# Altium schematic symbol library SWARMUS_LIB.SchLib: 181 symbols (part 1 of 4)
Pins are listed as number, name and electrical type; pins without a type are passive.

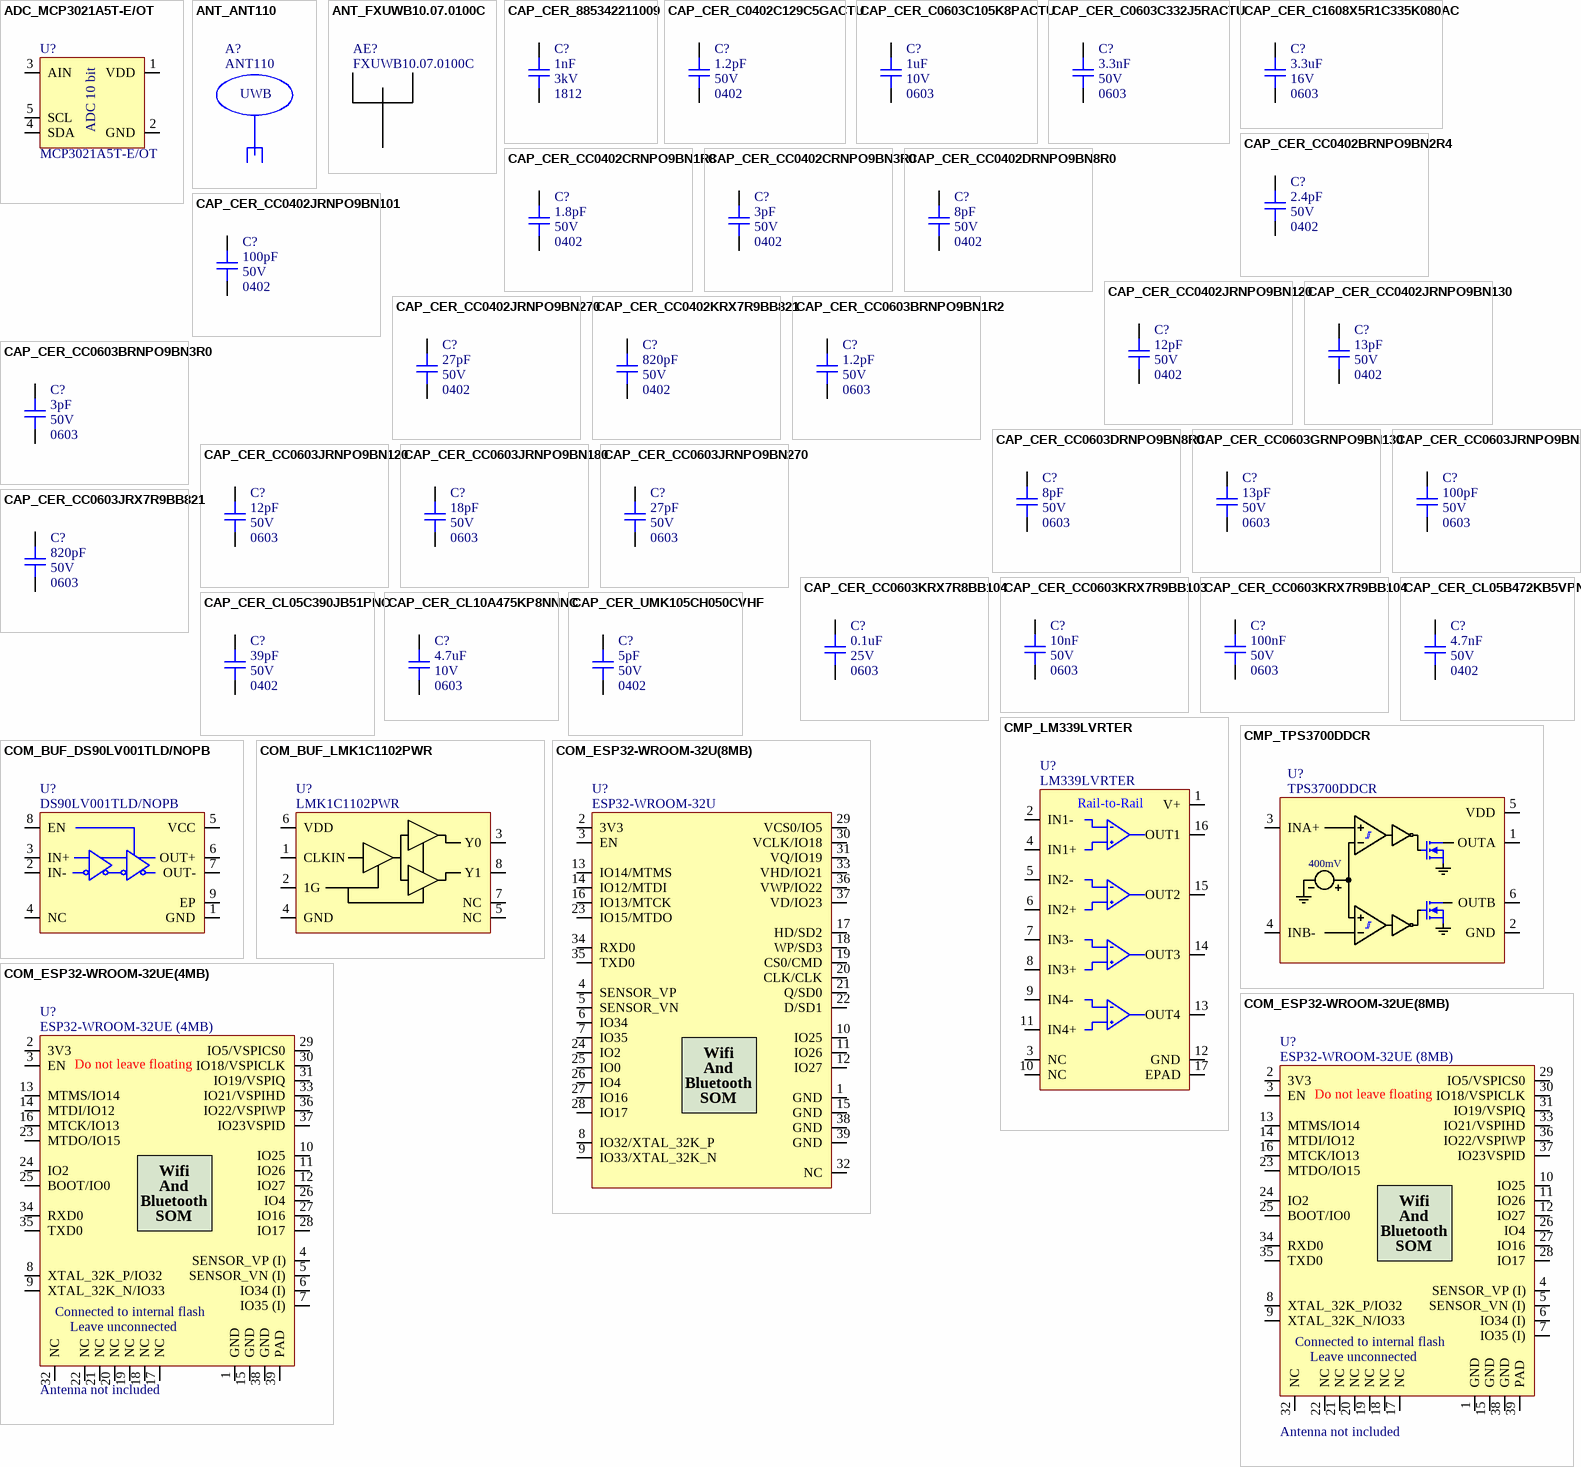
[diagram p0: symbols ADC_MCP3021A5T-E/OT to COM_ESP32-WROOM-32UE(8MB)]

## ADC_MCP3021A5T-E/OT
designator U?, comment MCP3021A5T-E/OT
ADC - IC ADC 10BIT I2C 22.3KSPS - SOT-23-5; Manufacturer #1: Microchip Technology; Note: Slave I2C Adress = 1001101; Value: 10 bit, 1 Channels, 22.3ksps; Voltage rating: 2.7V ~ 5.5V; Polarized: Yes; Magnetic Material: UNKNOWN; GRAMS Lib Spec: 2.8; Current Rating: *; Manufacturer #2: *; Power Max: *; Part Number #1: MCP3021A5T-E/OT; Part Number #2: *; HelpURL: https://ww1.microchip.com/downloads/en/DeviceDoc/20001805C.pdf; Supplier 1: Digi-Key; Supplier Part Number 1: MCP3021A5T-E/OTCT-ND; Assembly Type: SMD; Temperature: -40°C~125°C; Package: SOT-23-5; CreatedBy/Date: Louis-Daniel Gaulin / 24-02-2021; Tolerance: *; VerifiedBy: Hubert Dube - 26/02/2021; Cryo: UNKNOWN
footprint ADC_MCP3021A5T-E/OT
pins: 1 VDD, 2 GND, 3 AIN, 4 SDA, 5 SCL
text: ADC 10 bit

## ANT_ANT110
designator A?, comment ANT110  (mechanical)
ANT - UWB antenna 3.2 to 7GHz; Manufacturer #1: Ciholas; GRAMS Lib Spec: 2.7; Polarized: No; HelpURL: https://cuwb.io/products/ant110.pdf; CreatedBy/Date: Philippe Arsenault/2021-04-11; VerifiedBy: Louis-Daniel Gaulin / 14-04-2021; Assembly Type: SMA; Part Number #1: ANT110; Supplier 1: Ciholas; Supplier Part Number 1: ANT110
text: UWB

## ANT_FXUWB10.07.0100C
designator AE?, comment FXUWB10.07.0100C
External antenna - UWB - UMCC plug; Value: 3.0-10.3GHz; GRAMS Lib Spec: 2.8; HelpURL: http://cdn.taoglas.com/datasheets/FXUWB10.07.0100C.pdf; CreatedBy/Date: Philippe Arsenault; Temperature: -40°C to 85°C; Package: 50 ohm; Assembly Type: UMCC plug; Part Number #1: FXUWB10.07.0100C; Supplier 1: Digi-Key; Supplier Part Number 1: 931-1523-ND

## CAP_CER_885342211009
designator C?, comment value 1nF  Package: 1812  Voltage Rating: 3kV  (hidden comment: 885342211009)
CAP - CER 1000pF ±10% 3000V X7R; Manufacturer #1: Würth Elektronik; GRAMS Lib Spec: 2.8; Magnetic Material: Unknown; Polarized: No; Tolerance: 10%; Current Rating: *; Power Max: *; HelpURL: https://www.we-online.de/katalog/datasheet/885342211009.pdf; CreatedBy/Date: Hubert Dube - 03/02/2021; VerifiedBy: Philippe Asenault - 08-02-2021; Temperature: -55°C ~ 125°C; Manufacturer #2: *; Note: *; Assembly Type: SMD; Part Number #2: *; Part Number #1: 885342211009; Cryo: UNKNOWN; Supplier 1: Digi-Key; Supplier Part Number 1: 732-12109-1-ND
footprint CAP_CER_1812
pins: 1, 2

## CAP_CER_C0402C129C5GACTU
designator C?, comment value 1.2pF  Package: 0402  Voltage Rating: 50V  (hidden comment: C0402C129C5GACTU)
CAP - CER 1.2pF 50V ±0.25pF C0G, NP0 - 0402; Manufacturer #1: KEMET; GRAMS Lib Spec: 2.8; Magnetic Material: Unknown; Polarized: NO; Assembly Type: SMD; CreatedBy/Date: Philippe Arsenault/ 2020-07-24; Current Rating: *; HelpURL: https://content.kemet.com/datasheets/KEM_C1003_C0G_SMD.pdf; Manufacturer #2: *; Note: *; Part Number #1: C0402C129C5GACTU; Part Number #2: *; Power Max: *; Temperature: -55°C ~ 125°C; Tolerance: ±0.25pF; VerifiedBy: Louis-Daniel Gaulin / 2020-07-29; Cryo: UNKNOWN; Supplier 1: Digi-Key; Supplier Part Number 1: 399-1001-1-ND
footprint CAP_CER_0402 (Ceramic Capacitor - 0402)
pins: 1, 2

## CAP_CER_C0603C105K8PACTU
designator C?, comment value 1uF  Package: 0603  Voltage Rating: 10V  (hidden comment: C0603C105K8PACTU)
CAP - CER 1uF 10V 10% X5R - 0603; Manufacturer #1: KEMET; GRAMS Lib Spec: 2.8; Magnetic Material: Unknown; Polarized: NO; Tolerance: 10%; Current Rating: *; Power Max: *; HelpURL: https://content.kemet.com/datasheets/KEM_C1006_X5R_SMD.pdf; CreatedBy/Date: Hubert Dube - 21/07/20; VerifiedBy: Louis-Daniel Gaulin - 21/07/20; Temperature: -55°C ~ 85°C; Manufacturer #2: *; Assembly Type: SMD; Part Number #2: *; Part Number #1: C0603C105K8PACTU; Cryo: UNKNOWN; Supplier 1: Digi-Key; Supplier Part Number 1: 399-3118-1-ND
footprint CAP_CER_0603 (Ceramic Capacitor - 0603)
pins: 1, 2

## CAP_CER_C0603C332J5RACTU
designator C?, comment value 3.3nF  Package: 0603  Voltage Rating: 50V  (hidden comment: C0603C332J5RACTU)
CAP - CER 3.3nF 50V 5% X7R - 0603; Manufacturer #1: KEMET; GRAMS Lib Spec: 2.8; Magnetic Material: Unknown; Polarized: NO; Tolerance: 5%; Current Rating: *; Power Max: *; HelpURL: http://www.farnell.com/datasheets/2745899.pdf?src-supplier=Newark; CreatedBy/Date: Hubert Dube - 21/07/20; VerifiedBy: Louis-Daniel Gaulin - 21/07/20; Temperature: -55°C ~ 125°C; Manufacturer #2: *; Assembly Type: SMD; Part Number #2: *; Part Number #1: C0603C332J5RACTU; Cryo: UNKNOWN; Supplier 1: Digi-Key; Supplier Part Number 1: 399-7901-1-ND
footprint CAP_CER_0603 (Ceramic Capacitor - 0603)
pins: 1, 2

## CAP_CER_C1608X5R1C335K080AC
designator C?, comment value 3.3uF  Package: 0603  Voltage Rating: 16V  (hidden comment: C1608X5R1C335K080AC)
CAP - CER 3.3µF ±10% 16V Ceramic Capacitor X5R 0603 (1608 Metric); Manufacturer #1: TDK Corporation; GRAMS Lib Spec: 2.8; Magnetic Material: Unknown; Polarized: No; Tolerance: 10%; Current Rating: *; Power Max: *; HelpURL: https://product.tdk.com/en/system/files?file=dam/doc/product/capacitor/ceramic/mlcc/catalog/mlcc_commercial_general_en.pdf; CreatedBy/Date: Hubert Dube - 16/03/2021; VerifiedBy: Philippe Arsenault - 2021/03/16; Temperature: -55°C ~ 85°C; Manufacturer #2: *; Note: *; Assembly Type: SMD; Part Number #2: *; Part Number #1: C1608X5R1C335K080AC; Cryo: UNKNOWN; Supplier 1: Digi-Key; Supplier Part Number 1: 445-7476-1-ND
footprint CAP_CER_0603 (Ceramic Capacitor - 0603)
pins: 1, 2

## CAP_CER_CC0402BRNPO9BN2R4
designator C?, comment value 2.4pF  Package: 0402  Voltage Rating: 50V  (hidden comment: CC0402BRNPO9BN2R4)
CAP - CER 2.4PF 50V C0G/NP0 - 0402; Manufacturer #1: Yageo; Tolerance: ±0.1pF; GRAMS Lib Spec: 2.8; Magnetic Material: Unknown; Polarized: NO; Current Rating: *; Power Max: *; HelpURL: https://www.yageo.com/upload/media/product/productsearch/datasheet/mlcc/UPY-GP_NP0_16V-to-50V_18.pdf; CreatedBy/Date: Hubert Dube - 04/10/20; VerifiedBy: Louis-Daniel Gaulin - 09/11/2020; Temperature: -55°C ~ 125°C; Manufacturer #2: *; Assembly Type: SMD; Part Number #2: *; Part Number #1: CC0402BRNPO9BN2R4; Cryo: UNKNOWN; Supplier 1: Digi-Key; Supplier Part Number 1: 311-3703-1-ND
footprint CAP_CER_0402 (Ceramic Capacitor - 0402)
pins: 1, 2

## CAP_CER_CC0402CRNPO9BN1R8
designator C?, comment value 1.8pF  Package: 0402  Voltage Rating: 50V  (hidden comment: CC0402CRNPO9BN1R8)
CAP - CER 1.8PF 50V C0G/NP0 - 0402; Manufacturer #1: Yageo; Tolerance: ±0.25pF; GRAMS Lib Spec: 2.8; Magnetic Material: Unknown; Polarized: NO; Current Rating: *; Power Max: *; HelpURL: https://www.yageo.com/upload/media/product/productsearch/datasheet/mlcc/UPY-GP_NP0_16V-to-50V_18.pdf; CreatedBy/Date: Hubert Dube - 04/10/20; VerifiedBy: Louis-Daniel Gaulin - 09/11/2020; Temperature: -55°C ~ 125°C; Manufacturer #2: *; Assembly Type: SMD; Part Number #2: *; Part Number #1: CC0402CRNPO9BN1R8; Cryo: UNKNOWN; Supplier 1: Digi-Key; Supplier Part Number 1: 311-1004-1-ND
footprint CAP_CER_0402 (Ceramic Capacitor - 0402)
pins: 1, 2

## CAP_CER_CC0402CRNPO9BN3R0
designator C?, comment value 3pF  Package: 0402  Voltage Rating: 50V  (hidden comment: CC0402CRNPO9BN3R0)
CAP - CER 3pF 50V ±0.25pF C0G, NP0 - 0402; Manufacturer #1: Yageo; GRAMS Lib Spec: 2.8; Magnetic Material: Unknown; Polarized: NO; Assembly Type: SMD; CreatedBy/Date: Philippe Arsenault/ 2020-07-24; Current Rating: *; HelpURL: https://www.yageo.com/upload/media/product/productsearch/datasheet/mlcc/UPY-GP_NP0_16V-to-50V_18.pdf; Manufacturer #2: *; Note: *; Part Number #1: CC0402CRNPO9BN3R0; Part Number #2: *; Power Max: *; Temperature: -55°C ~ 125°C; Tolerance: ±0.25pF; VerifiedBy: Louis-Daniel Gaulin / 2020-07-29; Cryo: UNKNOWN; Supplier 1: Digi-Key; Supplier Part Number 1: 311-1007-1-ND
footprint CAP_CER_0402 (Ceramic Capacitor - 0402)
pins: 1, 2

## CAP_CER_CC0402DRNPO9BN8R0
designator C?, comment value 8pF  Package: 0402  Voltage Rating: 50V  (hidden comment: CC0402DRNPO9BN8R0)
CAP - CER 8PF 50V C0G/NP0 - 0402; Manufacturer #1: Yageo; Tolerance: ±0.5pF; GRAMS Lib Spec: 2.8; Magnetic Material: Unknown; Polarized: NO; Current Rating: *; Power Max: *; HelpURL: https://www.yageo.com/upload/media/product/productsearch/datasheet/mlcc/UPY-GP_NP0_16V-to-50V_18.pdf; CreatedBy/Date: Hubert Dube - 04/10/20; VerifiedBy: Louis-Daniel Gaulin - 09/11/2020; Temperature: -55°C ~ 125°C; Manufacturer #2: *; Assembly Type: SMD; Part Number #2: *; Part Number #1: CC0402DRNPO9BN8R0; Cryo: UNKNOWN; Supplier 1: Digi-Key; Supplier Part Number 1: 311-1639-1-ND
footprint CAP_CER_0402 (Ceramic Capacitor - 0402)
pins: 1, 2

## CAP_CER_CC0402JRNPO9BN101
designator C?, comment value 100pF  Package: 0402  Voltage Rating: 50V  (hidden comment: CC0402JRNPO9BN101)
CAP - CER 100pF 50V ±5% C0G,CP0 - 0402; Manufacturer #1: Yageo; GRAMS Lib Spec: 2.8; Magnetic Material: Unknown; Polarized: NO; Assembly Type: SMD; CreatedBy/Date: Philippe Arsenault/ 2020-07-24; Current Rating: *; HelpURL: https://www.yageo.com/upload/media/product/productsearch/datasheet/mlcc/UPY-GPHC_X7R_6.3V-to-50V_18.pdf; Manufacturer #2: *; Note: *; Part Number #1: CC0402JRNPO9BN101; Part Number #2: *; Power Max: *; Temperature: -55°C ~ 125°C; Tolerance: ±5%; VerifiedBy: Louis-Daniel Gaulin / 2020-07-29; Cryo: UNKNOWN; Supplier 1: Digi-Key; Supplier Part Number 1: 311-1024-1-ND
footprint CAP_CER_0402 (Ceramic Capacitor - 0402)
pins: 1, 2

## CAP_CER_CC0402JRNPO9BN120
designator C?, comment value 12pF  Package: 0402  Voltage Rating: 50V  (hidden comment: CC0402JRNPO9BN120)
CAP - CER 12pF 50V ±5% C0G, NP0 - 0402; Manufacturer #1: Yageo; GRAMS Lib Spec: 2.8; Magnetic Material: Unknown; Polarized: NO; Assembly Type: SMD; CreatedBy/Date: Philippe Arsenault/ 2020-07-24; Current Rating: *; HelpURL: https://www.yageo.com/upload/media/product/productsearch/datasheet/mlcc/UPY-GP_NP0_16V-to-50V_18.pdf; Manufacturer #2: *; Note: *; Part Number #1: CC0402JRNPO9BN120; Part Number #2: *; Power Max: *; Temperature: -55°C ~ 125°C; Tolerance: ±5%; VerifiedBy: Louis-Daniel Gaulin / 2020-07-29; Cryo: UNKNOWN; Supplier 1: Digi-Key; Supplier Part Number 1: 311-1016-1-ND
footprint CAP_CER_0402 (Ceramic Capacitor - 0402)
pins: 1, 2

## CAP_CER_CC0402JRNPO9BN130
designator C?, comment value 13pF  Package: 0402  Voltage Rating: 50V  (hidden comment: CC0402JRNPO9BN130)
CAP - CER 13PF 50V C0G/NP0 - 0402; Manufacturer #1: Yageo; Tolerance: ±5%; GRAMS Lib Spec: 2.8; Magnetic Material: Unknown; Polarized: NO; Current Rating: *; Power Max: *; HelpURL: https://www.yageo.com/upload/media/product/productsearch/datasheet/mlcc/UPY-GP_NP0_16V-to-50V_18.pdf; CreatedBy/Date: Hubert Dube - 04/10/20; VerifiedBy: Louis-Daniel Gaulin - 09/11/2020; Temperature: -55°C ~ 125°C; Manufacturer #2: *; Assembly Type: SMD; Part Number #2: *; Part Number #1: CC0402JRNPO9BN130; Cryo: UNKNOWN; Supplier 1: Digi-Key; Supplier Part Number 1: 311-3754-1-ND
footprint CAP_CER_0402 (Ceramic Capacitor - 0402)
pins: 1, 2

## CAP_CER_CC0402JRNPO9BN270
designator C?, comment value 27pF  Package: 0402  Voltage Rating: 50V  (hidden comment: CC0402JRNPO9BN270)
CAP - CER 27pF 50V ±5% C0G, NP0 - 0402; Manufacturer #1: Yageo; GRAMS Lib Spec: 2.8; Magnetic Material: Unknown; Polarized: NO; Assembly Type: SMD; CreatedBy/Date: Philippe Arsenault/ 2020-07-24; Current Rating: *; HelpURL: https://www.yageo.com/upload/media/product/productsearch/datasheet/mlcc/UPY-GP_NP0_16V-to-50V_18.pdf; Manufacturer #2: *; Note: *; Part Number #1: CC0402JRNPO9BN270; Part Number #2: *; Power Max: *; Temperature: -55°C ~ 125°C; Tolerance: ±5%; VerifiedBy: Louis-Daniel Gaulin / 2020-07-29; Cryo: UNKNOWN; Supplier 1: Digi-Key; Supplier Part Number 1: 311-1019-1-ND
footprint CAP_CER_0402 (Ceramic Capacitor - 0402)
pins: 1, 2

## CAP_CER_CC0402KRX7R9BB821
designator C?, comment value 820pF  Package: 0402  Voltage Rating: 50V  (hidden comment: CC0402KRX7R9BB821)
CAP - CER 820pF 50V ±10% X7R - 0402; Manufacturer #1: Yageo; GRAMS Lib Spec: 2.8; Magnetic Material: Unknown; Polarized: NO; Assembly Type: SMD; CreatedBy/Date: Philippe Arsenault/ 2020-07-24; Current Rating: *; HelpURL: https://www.yageo.com/upload/media/product/productsearch/datasheet/mlcc/UPY-GPHC_X7R_6.3V-to-50V_18.pdf; Manufacturer #2: *; Note: *; Part Number #1: CC0402KRX7R9BB821; Part Number #2: *; Power Max: *; Temperature: -55°C ~ 125°C; Tolerance: ±10%; VerifiedBy: Louis-Daniel Gaulin / 2020-07-29; Cryo: UNKNOWN; Supplier 1: Digi-Key; Supplier Part Number 1: 311-1727-1-ND
footprint CAP_CER_0402 (Ceramic Capacitor - 0402)
pins: 1, 2

## CAP_CER_CC0603BRNPO9BN1R2
designator C?, comment value 1.2pF  Package: 0603  Voltage Rating: 50V  (hidden comment: CC0603BRNPO9BN1R2)
CAP - CER 1.2pF 50V ±0.1pF C0G/NP0 - 0603; Manufacturer #1: Yageo; GRAMS Lib Spec: 2.8; Magnetic Material: UNKNOWN; Polarized: NO; Tolerance: ±0.1pF; Current Rating: *; Power Max: *; HelpURL: https://www.yageo.com/upload/media/product/productsearch/datasheet/mlcc/UPY-GP_NP0_16V-to-50V_18.pdf; CreatedBy/Date: Philippe Arsenault/2020-07-21; VerifiedBy: Louis-Daniel Gaulin / 2020-07-23; Temperature: -55°C ~ 125°C; Manufacturer #2: *; Note: *; Assembly Type: SMD; Part Number #2: *; Part Number #1: CC0603BRNPO9BN1R2; Cryo: UNKNOWN; Supplier 1: Digi-Key; Supplier Part Number 1: 311-3825-1-ND
footprint CAP_CER_0603 (Ceramic Capacitor - 0603)
pins: 1, 2

## CAP_CER_CC0603BRNPO9BN3R0
designator C?, comment value 3pF  Package: 0603  Voltage Rating: 50V  (hidden comment: CC0603BRNPO9BN3R0)
CAP - CER 3pF 50V ±0.1pF C0G/NP0 - 0603; Manufacturer #1: Yageo; GRAMS Lib Spec: 2.8; Magnetic Material: UNKNOWN; Polarized: NO; Tolerance: ±0.1pF; Current Rating: *; Power Max: *; HelpURL: https://www.yageo.com/upload/media/product/productsearch/datasheet/mlcc/UPY-GP_NP0_16V-to-50V_18.pdf; CreatedBy/Date: Philippe Arsenault/2020-07-21; VerifiedBy: Louis-Daniel Gaulin / 2020-07-22; Temperature: -55°C ~ 125°C; Manufacturer #2: *; Note: *; Assembly Type: SMD; Part Number #2: *; Part Number #1: CC0603BRNPO9BN3R0; Cryo: UNKNOWN; Supplier 1: Digi-Key; Supplier Part Number 1: 311-3831-1-ND
footprint CAP_CER_0603 (Ceramic Capacitor - 0603)
pins: 1, 2

## CAP_CER_CC0603DRNPO9BN8R0
designator C?, comment value 8pF  Package: 0603  Voltage Rating: 50V  (hidden comment: CC0603DRNPO9BN8R0)
CAP - CER 8pF 50V ±0.5pF C0G/NP0 - 0603; Manufacturer #1: Yageo; Tolerance: ±0.5pF (6.25%); GRAMS Lib Spec: 2.8; Magnetic Material: Unknown; Polarized: NO; Current Rating: *; Power Max: *; HelpURL: https://www.yageo.com/upload/media/product/productsearch/datasheet/mlcc/UPY-GP_NP0_16V-to-50V_18.pdf; CreatedBy/Date: Hubert Dube - 21/07/20; VerifiedBy: Louis-Daniel Gaulin / 2020-07-22; Temperature: -55°C ~ 125°C; Manufacturer #2: *; Assembly Type: SMD; Part Number #2: *; Part Number #1: CC0603DRNPO9BN8R0; Cryo: UNKNOWN; Supplier 1: Digi-Key; Supplier Part Number 1: 311-1057-1-ND
footprint CAP_CER_0603 (Ceramic Capacitor - 0603)
pins: 1, 2

## CAP_CER_CC0603GRNPO9BN130
designator C?, comment value 13pF  Package: 0603  Voltage Rating: 50V  (hidden comment: CC0603GRNPO9BN130)
CAP - CER 13pF 50V 2% C0G/NP0 - 0603; Manufacturer #1: Yageo; GRAMS Lib Spec: 2.8; Magnetic Material: Unknown; Polarized: NO; Tolerance: 2%; Current Rating: *; Power Max: *; HelpURL: https://www.yageo.com/upload/media/product/productsearch/datasheet/mlcc/UPY-GP_NP0_16V-to-50V_18.pdf; CreatedBy/Date: Hubert Dube - 21/07/20; VerifiedBy: Louis-Daniel Gaulin / 2020-07-22; Temperature: -55°C ~ 125°C; Manufacturer #2: *; Assembly Type: SMD; Part Number #2: *; Part Number #1: CC0603GRNPO9BN130; Cryo: UNKNOWN; Supplier 1: Digi-Key; Supplier Part Number 1: 311-3919-1-ND
footprint CAP_CER_0603 (Ceramic Capacitor - 0603)
pins: 1, 2

## CAP_CER_CC0603JRNPO9BN101
designator C?, comment value 100pF  Package: 0603  Voltage Rating: 50V  (hidden comment: CC0603JRNPO9BN101)
CAP - CER 100pF 50V 5% C0G/NP0 - 0603; Manufacturer #1: Yageo; GRAMS Lib Spec: 2.8; Magnetic Material: Unknown; Polarized: NO; Tolerance: 5%; Current Rating: *; Power Max: *; HelpURL: https://www.yageo.com/upload/media/product/productsearch/datasheet/mlcc/UPY-GP_NP0_16V-to-50V_18.pdf; CreatedBy/Date: Hubert Dube - 21/07/20; VerifiedBy: Louis-Daniel Gaulin - 21/07/20; Temperature: -55°C ~ 125°C; Manufacturer #2: *; Assembly Type: SMD; Part Number #2: *; Part Number #1: CC0603JRNPO9BN101; Cryo: UNKNOWN; Supplier 1: Digi-Key; Supplier Part Number 1: 311-1069-1-ND
footprint CAP_CER_0603 (Ceramic Capacitor - 0603)
pins: 1, 2

## CAP_CER_CC0603JRNPO9BN120
designator C?, comment value 12pF  Package: 0603  Voltage Rating: 50V  (hidden comment: CC0603JRNPO9BN120)
CAP - CER 12pF 50V 5% C0G/NP0 - 0603; Manufacturer #1: Yageo; GRAMS Lib Spec: 2.8; Magnetic Material: Unknown; Polarized: No; Tolerance: 5%; Current Rating: *; Power Max: *; HelpURL: https://www.yageo.com/upload/media/product/productsearch/datasheet/mlcc/UPY-GP_NP0_16V-to-50V_18.pdf; CreatedBy/Date: Philippe Arsenault/2020-07-22; VerifiedBy: Louis-Daniel Gaulin / 2020-07-23; Temperature: -55°C ~ 125°C; Manufacturer #2: *; Note: *; Assembly Type: SMD; Part Number #2: *; Part Number #1: CC0603JRNPO9BN120; Cryo: Unknown; Supplier 1: Digi-Key; Supplier Part Number 1: 311-1059-1-ND
footprint CAP_CER_0603 (Ceramic Capacitor - 0603)
pins: 1, 2

## CAP_CER_CC0603JRNPO9BN180
designator C?, comment value 18pF  Package: 0603  Voltage Rating: 50V  (hidden comment: CC0603JRNPO9BN180)
CAP - CER 18pF 50V 5% C0G/NP0 - 0603; Manufacturer #1: Yageo; GRAMS Lib Spec: 2.8; Magnetic Material: Unknown; Polarized: No; Tolerance: 5%; Current Rating: *; Power Max: *; HelpURL: https://www.yageo.com/upload/media/product/productsearch/datasheet/mlcc/UPY-GP_NP0_16V-to-50V_18.pdf; CreatedBy/Date: Philippe Arsenault/2020-07-22; VerifiedBy: Louis-Daniel Gaulin / 2020-07-23; Temperature: -55°C ~ 125°C; Manufacturer #2: *; Note: *; Assembly Type: SMD; Part Number #2: *; Part Number #1: CC0603JRNPO9BN180; Cryo: Unknown; Supplier 1: Digi-Key; Supplier Part Number 1: 311-1061-1-ND
footprint CAP_CER_0603 (Ceramic Capacitor - 0603)
pins: 1, 2

## CAP_CER_CC0603JRNPO9BN270
designator C?, comment value 27pF  Package: 0603  Voltage Rating: 50V  (hidden comment: CC0603JRNPO9BN270)
CAP - CER 27pF 50V 5% C0G/NP0 - 0603; Manufacturer #1: Yageo; GRAMS Lib Spec: 2.8; Magnetic Material: Unknown; Polarized: No; Tolerance: 5%; Current Rating: *; Power Max: *; HelpURL: https://www.yageo.com/upload/media/product/productsearch/datasheet/mlcc/UPY-GP_NP0_16V-to-50V_18.pdf; CreatedBy/Date: Philippe Arsenault/2020-07-22; VerifiedBy: Louis-Daniel Gaulin / 2020-07-23; Temperature: -55°C ~ 125°C; Manufacturer #2: *; Note: *; Assembly Type: SMD; Part Number #2: *; Part Number #1: CC0603JRNPO9BN270; Cryo: Unknown; Supplier 1: Digi-Key; Supplier Part Number 1: 311-1063-1-ND
footprint CAP_CER_0603 (Ceramic Capacitor - 0603)
pins: 1, 2

## CAP_CER_CC0603JRX7R9BB821
designator C?, comment value 820pF  Package: 0603  Voltage Rating: 50V  (hidden comment: CC0603JRX7R9BB821)
CAP - CER 820pF 50V 5% X7R  - 0603; Manufacturer #1: Yageo; GRAMS Lib Spec: 2.8; Magnetic Material: Unknown; Polarized: No; Tolerance: 5%; Current Rating: *; Power Max: *; HelpURL: https://www.yageo.com/upload/media/product/productsearch/datasheet/mlcc/UPY-GPHC_X7R_6.3V-to-50V_18.pdf; CreatedBy/Date: Philippe Arsenault/2020-07-22; VerifiedBy: Louis-Daniel Gaulin / 2020-07-23; Temperature: -55°C ~ 125°C; Manufacturer #2: *; Note: *; Assembly Type: SMD; Part Number #2: *; Part Number #1: CC0603JRX7R9BB821; Cryo: Unknown; Supplier 1: Digi-Key; Supplier Part Number 1: 311-4023-1-ND
footprint CAP_CER_0603 (Ceramic Capacitor - 0603)
pins: 1, 2

## CAP_CER_CC0603KRX7R8BB104
designator C?, comment value 0.1uF  Package: 0603  Voltage Rating: 25V  (hidden comment: CC0603KRX7R8BB104)
CAP - CER 0.1uF 25V 10% X7R - 0603; Manufacturer #1: Yageo; GRAMS Lib Spec: 2.8; Magnetic Material: Unknown; Polarized: NO; Tolerance: 10%; Current Rating: *; Power Max: *; HelpURL: https://www.yageo.com/upload/media/product/productsearch/datasheet/mlcc/UPY-GPHC_X7R_6.3V-to-50V_18.pdf; CreatedBy/Date: Hubert Dube - 21/07/20; VerifiedBy: Louis-Daniel Gaulin - 21/07/20; Temperature: -55°C ~ 125°C; Manufacturer #2: *; Assembly Type: SMD; Part Number #2: *; Part Number #1: CC0603KRX7R8BB104; Cryo: UNKNOWN; Supplier 1: Digi-Key; Supplier Part Number 1: 311-1341-2-ND
footprint CAP_CER_0603 (Ceramic Capacitor - 0603)
pins: 1, 2

## CAP_CER_CC0603KRX7R9BB103
designator C?, comment value 10nF  Package: 0603  Voltage Rating: 50V  (hidden comment: CC0603KRX7R9BB103)
CAP - CER 10nF 50V 10% X7R - 0603; Manufacturer #1: Yageo; GRAMS Lib Spec: 2.8; Magnetic Material: Unknown; Polarized: NO; Tolerance: 10%; Current Rating: *; Power Max: *; HelpURL: https://www.yageo.com/upload/media/product/productsearch/datasheet/mlcc/UPY-GPHC_X7R_6.3V-to-50V_18.pdf; CreatedBy/Date: Hubert Dube - 21/07/20; VerifiedBy: Louis-Daniel Gaulin - 21/07/20; Temperature: -55°C ~ 125°C; Manufacturer #2: *; Assembly Type: SMD; Part Number #2: *; Part Number #1: CC0603KRX7R9BB103; Cryo: UNKNOWN; Supplier 1: Digi-Key; Supplier Part Number 1: 311-1085-1-ND
footprint CAP_CER_0603 (Ceramic Capacitor - 0603)
pins: 1, 2

## CAP_CER_CC0603KRX7R9BB104
designator C?, comment value 100nF  Package: 0603  Voltage Rating: 50V  (hidden comment: CC0603KRX7R9BB104)
CAP - CER 100nF 50V X7R - 0603; Manufacturer #1: Yageo; Tolerance: 10%; GRAMS Lib Spec: 2.8; Magnetic Material: UNKNOWN; Polarized: NO; Current Rating: *; Power Max: *; HelpURL: https://www.yageo.com/upload/media/product/productsearch/datasheet/mlcc/UPY-GPHC_X7R_6.3V-to-50V_18.pdf; CreatedBy/Date: Louis-Daniel Gaulin / 25-02-2021; VerifiedBy: Hubert Dube - 26/02/2021; Temperature: -55°C ~ 125°C; Manufacturer #2: *; Note: *; Assembly Type: SMD; Part Number #2: *; Part Number #1: CC0603KRX7R9BB104; Supplier 1: Digi-Key; Supplier Part Number 1: 311-1344-1-ND; Cryo: UNKNOWN
footprint CAP_CER_0603 (Ceramic Capacitor - 0603)
pins: 1, 2

## CAP_CER_CL05B472KB5VPNC
designator C?, comment value 4.7nF  Package: 0402  Voltage Rating: 50V  (hidden comment: CL05B472KB5VPNC)
CAP - CER 4700PF 50V X7R 0402; Manufacturer #1: Samsung Electro-Mechanics; GRAMS Lib Spec: 2.8; Tolerance: ±10%; Magnetic Material: Unknown; Polarized: NO; Assembly Type: SMD; CreatedBy/Date: Philippe Arsenault/ 2021-03-26; Current Rating: *; HelpURL: https://www.samsungsem.com/resources/file/global/support/product_catalog/MLCC.pdf; Manufacturer #2: *; Note: *; Part Number #1: CL05B472KB5VPNC; Part Number #2: *; Power Max: *; Temperature: -55°C ~ 125°C; Cryo: UNKNOWN; Supplier 1: Digi-Key; Supplier Part Number 1: 1276-6576-1-ND
footprint CAP_CER_0402 (Ceramic Capacitor - 0402)
pins: 1, 2

## CAP_CER_CL05C390JB51PNC
designator C?, comment value 39pF  Package: 0402  Voltage Rating: 50V  (hidden comment: CL05C390JB51PNC)
CAP - CER 39 pF 5% 50V COG/NP0 - 0402; Manufacturer #1: Samsung Electro-Mechanics; GRAMS Lib Spec: 2.8; Magnetic Material: Unknown; Polarized: NO; Assembly Type: SMD; CreatedBy/Date: Louis-Daniel Gaulin / 11-04-2021; Current Rating: *; HelpURL: https://www.samsungsem.com/resources/file/global/support/product_catalog/MLCC.pdf; Manufacturer #2: *; Part Number #1: CL05C390JB51PNC; Part Number #2: *; Power Max: *; Temperature: -55°C ~ 125°C; Tolerance: 5%; VerifiedBy: Philippe Arsenault/2021-04-14; Supplier 1: Digi-Key; Supplier Part Number 1: 1276-6863-1-ND; Cryo: UNKNOWN
footprint CAP_CER_0402 (Ceramic Capacitor - 0402)
pins: 1, 2

## CAP_CER_CL10A475KP8NNNC
designator C?, comment value 4.7uF  Package: 0603  Voltage Rating: 10V  (hidden comment: CL10A475KP8NNNC)
CAP - CER 4.7µF ±10% 10V Ceramic Capacitor X5R 0603; Manufacturer #1: Samsung Electro-Mechanics; GRAMS Lib Spec: 2.8; Magnetic Material: Unknown; Polarized: No; Tolerance: 10%; Current Rating: *; Power Max: *; HelpURL: https://www.samsungsem.com/resources/file/global/support/product_catalog/MLCC.pdf; CreatedBy/Date: Hubert Dube - 25/02/2021; VerifiedBy: Philippe Arsenault/2021-03-14; Temperature: -55°C ~ 85°C; Manufacturer #2: *; Note: *; Assembly Type: SMD; Part Number #2: *; Part Number #1: CL10A475KP8NNNC; Cryo: UNKNOWN; Supplier 1: Digi-Key; Supplier Part Number 1: 1276-1044-1-ND
footprint CAP_CER_0603 (Ceramic Capacitor - 0603)
pins: 1, 2

## CAP_CER_UMK105CH050CVHF
designator C?, comment value 5pF  Package: 0402  Voltage Rating: 50V  (hidden comment: UMK105CH050CVHF)
CAP - CER 5pF ±0.25pF 50V Ceramic Capacitor CH 0402 (1005 Metric); Manufacturer #1: Taiyo Yuden; GRAMS Lib Spec: 2.8; Magnetic Material: Unknown; Polarized: No; Tolerance: ±0.25pF; Current Rating: *; Power Max: *; HelpURL: https://www.mouser.ca/datasheet/2/396/taiyo_yuden_12132018_mlcc11_hq_e-1510082.pdf; CreatedBy/Date: Hubert Dube - 16/03/2021; VerifiedBy: Philippe Arsenault - 2021/03/16; Temperature: -55 to +125℃; Manufacturer #2: *; Note: *; Assembly Type: SMD; Part Number #2: *; Part Number #1: UMK105CH050CVHF; Supplier 1: Digi-Key; Cryo: UNKNOWN; Supplier Part Number 1: 587-5059-1-ND
footprint CAP_CER_0402 (Ceramic Capacitor - 0402)
pins: 1, 2

## CMP_LM339LVRTER
designator U?, comment LM339LVRTER
COMP - Quad Comparator General Purpose Open-Drain, Rail-to-Rail - 16-WQFN (3x3); Manufacturer #1: Texas instrument; Voltage Rating: 1.65V ~ 5.5V; Current Rating: 100mA@5V (SC); GRAMS Lib Spec: 2.8; Magnetic Material: Unknown; Polarized: Yes; Power Max: -; HelpURL: https://www.ti.com/lit/ds/symlink/lm339lv.pdf?ts=1618013735062; CreatedBy/Date: Philippe Arsenault/2021-04-10; VerifiedBy: Louis-Daniel Gaulin / 14-04-2021; Temperature: -40°C ~ 125°C (TA); Package: 16-WFQFN Exposed Pad; Assembly Type: SMD; Part Number #1: LM339LVRTER; Supplier 1: Digi-Key; Supplier Part Number 1: 296-LM339LVRTERCT-ND
footprint CMP_LM339LVRTER (WQFN-16)
pins: 1 V+, 2 IN1-, 3 NC, 4 IN1+, 5 IN2-, 6 IN2+, 7 IN3-, 8 IN3+, 9 IN4-, 10 NC, 11 IN4+, 12 GND, 13 OUT4, 14 OUT3, 15 OUT2, 16 OUT1, 17 EPAD
text: Rail-to-Rail

## CMP_TPS3700DDCR
designator U?, comment TPS3700DDCR
CMP - Comparator Window Open Drain - TSOT-23-6; Manufacturer #1: Texas Instruments; Voltage Rating: 1.8V ~ 18V; Current Rating: 40mA; GRAMS Lib Spec: 2.8; Polarized: YES; Value: *; Tolerance: *; Power Max: *; HelpURL: https://www.ti.com/lit/ds/symlink/tps3700.pdf?ts=1613994469122&ref_url=https%253A%252F%252Fwww.ti.com%252Fproduct%252FTPS3700%253Futm_source%253Dgoogle%2526utm_medium%253Dcpc%2526utm_campaign%253Dapp-null-null-GPN_EN-cpc-pf-google-wwe%2526utm_content%253DTPS3700%2526ds_k%253DTPS3700%2526DCM%253Dyes%2526gclid%253DEAIaIQobChMI6PCR77X97gIVzUeRBR1hwwWTEAAYASAAEgJJbfD_BwE%2526gclsrc%253Daw.ds; CreatedBy/Date: Louis-Daniel Gaulin / 22-02-2021; VerifiedBy: Hubert Dube - 26/02/2021; Temperature: -40°C ~ 125°C; Package: TSOT-23-6; Manufacturer #2: *; Note: *; Assembly Type: SMT; Part Number #2: *; Part Number #1: TPS3700DDCR; Magnetic Material: *; Supplier 1: Digi-Key; Supplier Part Number 1: 296-30395-2-ND
footprint CMP_TPS3700DDCR
pins: 1 OUTA, 2 GND, 3 INA+, 4 INB-, 5 VDD, 6 OUTB
text: 400mV

## COM_BUF_DS90LV001TLD/NOPB
designator U?, comment DS90LV001TLD/NOPB
COM_BUF - ReDriver 1 Channel 800Mbps CML,LVDS,LVPECL to LVDS - / 8-WFDFN EP; Manufacturer #1: Texas Instruments; Voltage Rating: 3V ~ 3.6V; Current Rating: 70mA; GRAMS Lib Spec: 2.8; Magnetic Material: Unknown; Polarized: Yes; Value: LVDS; Power Max: -; HelpURL: https://www.ti.com/lit/ds/symlink/ds90lv001.pdf?HQS=dis-dk-null-digikeymode-dsf-pf-null-wwe&ts=1617891563599; CreatedBy/Date: Louis-Daniel Gaulin / 07-04-2021; VerifiedBy: Philippe Arsenault/2021-04-08; Temperature: -40°C ~ 85°C; Package: 8-WFDFN EP; Assembly Type: SMD; Part Number #1: DS90LV001TLD/NOPB; Supplier 1: Digi-Key; Supplier Part Number 1: DS90LV001TLD/NOPBCT-ND
footprint COM_BUF_DS90LV001TLD/NOPB (SON, 8-Leads, Body 3.00x3.00mm, Pitch 0.50mm, Thermal Pad 2.00x1.20mm, IPC Medium Density)
pins: 1 GND, 2 IN-, 3 IN+, 4 NC, 5 VCC, 6 OUT+, 7 OUT-, 8 EN, 9 EP

## COM_BUF_LMK1C1102PWR
designator U?, comment LMK1C1102PWR
COM - BUF - Clock buffer 3V3, 2V5, 1V8 2 Channel - TSSOP 8; Manufacturer #1: Texas Instruments; Voltage Rating: 1.71V ~ 1.89V, 2.375V ~ 2.625V, 3.135V ~ 3.465V; Current Rating: Input +-20mA ; Output +- 50mA; Power Max: 132mW; GRAMS Lib Spec: 2.8; Magnetic Material: Unknown; Polarized: Yes; Cryo: No; Value: *; Tolerance: *; HelpURL: https://www.ti.com/lit/ds/symlink/lmk1c1102.pdf?ts=1595262014854&ref_url=https%253A%252F%252Fwww.ti.com%252Fproduct%252FLMK1C1102%253Futm_source%253Dgoogle%2526utm_medium%253Dcpc%2526utm_campaign%253Dasc-null-null-GPN_EN-cpc-pf-google-wwe%2526utm_content%253DLMK1C1102%2526ds_k%253DLMK1C1102%2526DCM%253Dyes%2526gclid%253DCjwKCAjwgdX4BRB_EiwAg8O8HUIvo-ksMfq8YInqTklLXWuMoCGXxsnhq04Fqr4kdDFQPSc0fYG9iRoCPvAQAvD_BwE%2526gclsrc%253Daw.ds; CreatedBy/Date: Philippe Arsenault/20-07-2020; VerifiedBy: Louis-Daniel Gaulin / 23-07-2020; Temperature: –40°C to 125°C; Package: TSSOP 8 pin; Note: *; Assembly Type: SMT; Part Number #2: *; Part Number #1: LMK1C1102PWR
footprint COM_BUF_LMK1C1102PWR (TSOP, 8-Leads, Body 3,00x4,40mm, Pitch 0,65mm, IPC Medium Density)
pins: 1 CLKIN, 2 1G, 3 Y0, 4 GND, 5 NC, 6 VDD, 7 NC, 8 Y1

## COM_ESP32-WROOM-32U(8MB)
designator U?, comment ESP32-WROOM-32U
Bluetooth, WiFi 802.11b/g/n, Bluetooth v4.2  2.4GHz ~ 2.5GHz U.FL Surface Mount; Manufacturer #1: Espressif Systems; Part Number #1: 1904-1027-1-ND; Voltage Rating: -0.3 to 3.6V; Current Rating: 1100mA; Power Max: 3.96W; GRAMS Lib Spec: 2.7; Note: Antenna not included; Magnetic Material: Unknown; Polarized: Yes; Value: *; Tolerance: *; HelpURL: https://www.espressif.com/sites/default/files/documentation/esp32-wroom-32d_esp32-wroom-32u_datasheet_en.pdf; VerifiedBy: Philippe Arsenault - 15/12/2020; Temperature: -40~150C; Package: 38-SMD MODULE; Manufacturer #2: *; Assembly Type: SMD; Part Number #2: *; CreatedBy/Date: Hubert Dube -  12/12/20; Supplier 1: Digi-Key; Supplier Part Number 1: 1904-1027-1-ND
footprint COM_ESP32-WROOM-32U(8MB)
pins: 1 GND, 2 3V3, 3 EN, 4 SENSOR_VP, 5 SENSOR_VN, 6 IO34, 7 IO35, 8 IO32/XTAL_32K_P, 9 IO33/XTAL_32K_N, 10 IO25, 11 IO26, 12 IO27, 13 IO14/MTMS, 14 IO12/MTDI, 15 GND, 16 IO13/MTCK, 17 HD/SD2, 18 WP/SD3, 19 CS0/CMD, 20 CLK/CLK, 21 Q/SD0, 22 D/SD1, 23 IO15/MTDO, 24 IO2, 25 IO0, 26 IO4, 27 IO16, 28 IO17, 29 VCS0/IO5, 30 VCLK/IO18, 31 VQ/IO19, 32 NC, 33 VHD/IO21, 34 RXD0, 35 TXD0, 36 VWP/IO22, 37 VD/IO23, 38 GND, 39 GND
text: Wifi; And; Bluetooth; SOM

## COM_ESP32-WROOM-32UE(4MB)
designator U?, comment ESP32-WROOM-32UE (4MB)  Note: Antenna not included
Bluetooth, WiFi 802.11b/g/n, Bluetooth v4.2 +EDR, Class 1, 2 and 3 Transceiver Module 2.4GHz ~ 2.5GHz Antenna Not Included, U.FL Surface Mount; Manufacturer #1: Espressif Systems; Voltage Rating: -0.3 to 3.6V; Current Rating: 1100mA; Power Max: 3.96W; GRAMS Lib Spec: 2.7; Magnetic Material: Unknown; Polarized: Yes; Value: *; Tolerance: *; HelpURL: https://www.espressif.com/sites/default/files/documentation/esp32-wroom-32e_esp32-wroom-32ue_datasheet_en.pdf; VerifiedBy: Philippe Arsenault/ 2021-03-11; Temperature: -40~85C; Package: 38-SMD MODULE; Manufacturer #2: *; Assembly Type: SMD; Part Number #2: *; Part Number #1: ESP32-WROOM-32UE (4MB); CreatedBy/Date: Hubert Dube -  25/02/2021; Supplier 1: Digi-Key; Supplier Part Number 1: 1965-ESP32-WROOM-32UE(4MB)TR-ND
footprint COM_ESP32-WROOM-32UE(8MB)
pins: 1 GND, 2 3V3, 3 EN, 4 SENSOR_VP (I), 5 SENSOR_VN (I), 6 IO34 (I), 7 IO35 (I), 8 XTAL_32K_P/IO32, 9 XTAL_32K_N/IO33, 10 IO25, 11 IO26, 12 IO27, 13 MTMS/IO14, 14 MTDI/IO12, 15 GND, 16 MTCK/IO13, 17 NC, 18 NC, 19 NC, 20 NC, 21 NC, 22 NC, 23 MTDO/IO15, 24 IO2, 25 BOOT/IO0, 26 IO4, 27 IO16, 28 IO17, 29 IO5/VSPICS0, 30 IO18/VSPICLK, 31 IO19/VSPIQ, 32 NC, 33 IO21/VSPIHD, 34 RXD0, 35 TXD0, 36 IO22/VSPIWP, 37 IO23VSPID, 38 GND, 39 PAD
text: Do not leave floating; Wifi; And; Bluetooth; SOM; Connected to internal flash; Leave unconnected

## COM_ESP32-WROOM-32UE(8MB)
designator U?, comment ESP32-WROOM-32UE (8MB)  Note: Antenna not included
Bluetooth, WiFi 802.11b/g/n, Bluetooth v4.2 +EDR, Class 1, 2 and 3 Transceiver Module 2.4GHz ~ 2.5GHz Antenna Not Included, U.FL Surface Mount; Manufacturer #1: Espressif Systems; Voltage Rating: -0.3 to 3.6V; Current Rating: 1100mA; Power Max: 3.96W; GRAMS Lib Spec: 2.7; Magnetic Material: Unknown; Polarized: Yes; Value: *; Tolerance: *; HelpURL: https://www.espressif.com/sites/default/files/documentation/esp32-wroom-32e_esp32-wroom-32ue_datasheet_en.pdf; VerifiedBy: Philippe Arsenault/ 2021-03-11; Temperature: -40~85C; Package: 38-SMD MODULE; Manufacturer #2: *; Assembly Type: SMD; Part Number #2: *; Part Number #1: ESP32-WROOM-32UE (8MB); CreatedBy/Date: Hubert Dube -  25/02/2021; Supplier 1: Digi-Key; Supplier Part Number 1: 1965-ESP32-WROOM-32UE(8MB)TR-ND
footprint COM_ESP32-WROOM-32UE(8MB)
pins: 1 GND, 2 3V3, 3 EN, 4 SENSOR_VP (I), 5 SENSOR_VN (I), 6 IO34 (I), 7 IO35 (I), 8 XTAL_32K_P/IO32, 9 XTAL_32K_N/IO33, 10 IO25, 11 IO26, 12 IO27, 13 MTMS/IO14, 14 MTDI/IO12, 15 GND, 16 MTCK/IO13, 17 NC, 18 NC, 19 NC, 20 NC, 21 NC, 22 NC, 23 MTDO/IO15, 24 IO2, 25 BOOT/IO0, 26 IO4, 27 IO16, 28 IO17, 29 IO5/VSPICS0, 30 IO18/VSPICLK, 31 IO19/VSPIQ, 32 NC, 33 IO21/VSPIHD, 34 RXD0, 35 TXD0, 36 IO22/VSPIWP, 37 IO23VSPID, 38 GND, 39 PAD
text: Do not leave floating; Wifi; And; Bluetooth; SOM; Connected to internal flash; Leave unconnected

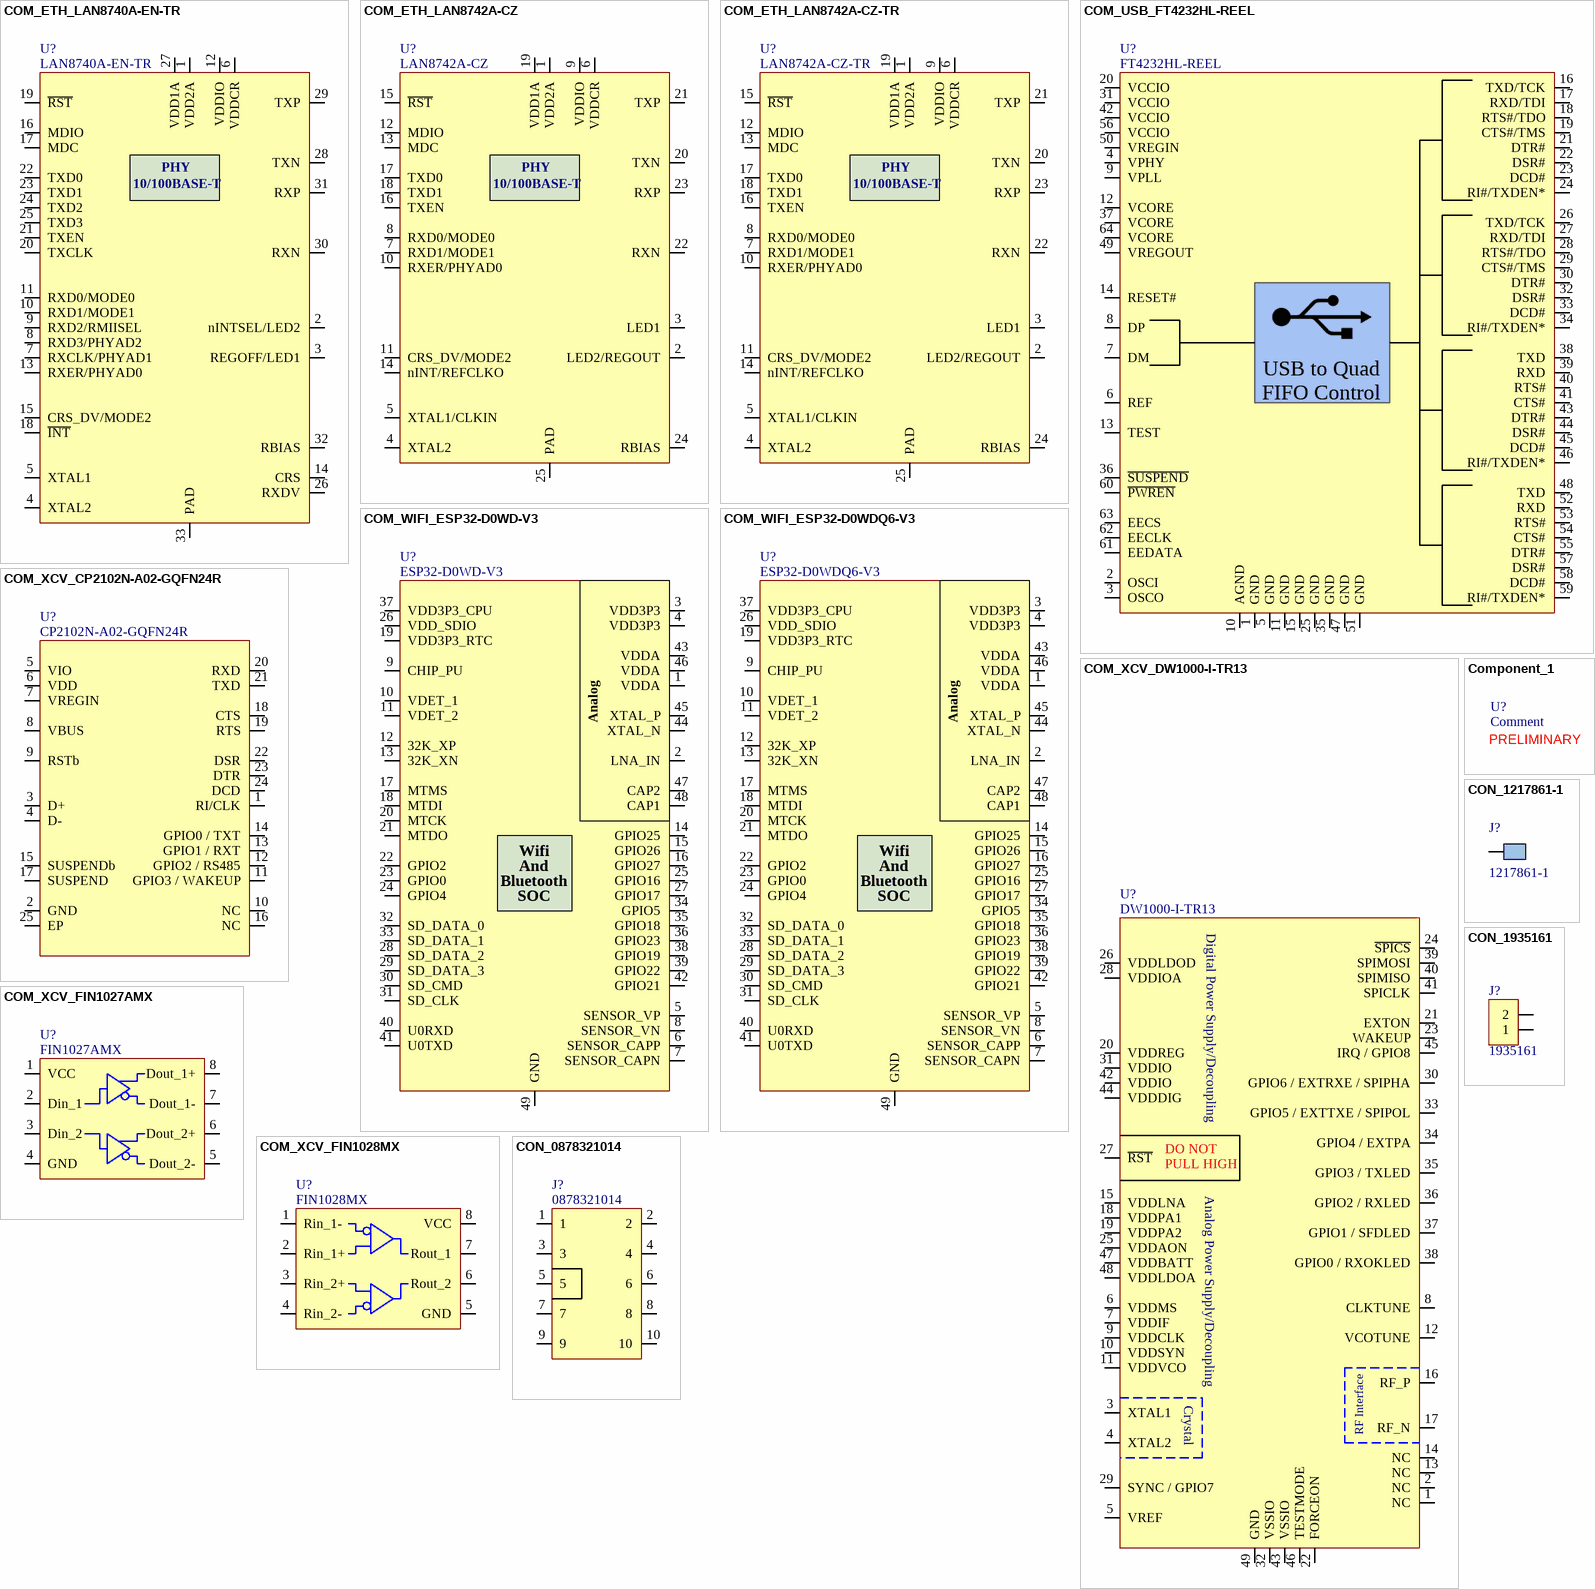
[diagram p1: symbols COM_ETH_LAN8740A-EN-TR to CON_0878321014]

## COM_ETH_LAN8740A-EN-TR
designator U?, comment LAN8740A-EN-TR
COM_ETH - Ethernet PHY 1/1 Transceiver Full Ethernet - 32-SQFN (5x5); Manufacturer #1: Microchip Technology; Voltage Rating: 1.8V ~ 3.3V; Current Rating: 55mA (device) + 97mA (mags); Power Max: 180mW; GRAMS Lib Spec: 2.8; Magnetic Material: Unknown; Polarized: Yes; Value: *; Tolerance: *; HelpURL: https://ww1.microchip.com/downloads/en/DeviceDoc/8740a.pdf; VerifiedBy: Louis-Daniel Gaulin / 08-04-2021; Temperature: 0°C ~ 70°C; Package: 32-SQFN (5x5); Manufacturer #2: *; Note: *; Assembly Type: SMD; Part Number #2: *; Part Number #1: LAN8740A-EN-TR; CreatedBy/Date: Philippe Arsnenault/2021-04-07; Supplier 1: Digi-Key; Supplier Part Number 1: LAN8740A-EN-CT-ND
footprint COM_ETH_LAN8740A-EN-TR (QFN, 32-Leads)
pins: 1 VDD2A, 2 nINTSEL/LED2, 3 REGOFF/LED1, 4 XTAL2, 5 XTAL1, 6 VDDCR, 7 RXCLK/PHYAD1, 8 RXD3/PHYAD2, 9 RXD2/RMIISEL, 10 RXD1/MODE1, 11 RXD0/MODE0, 12 VDDIO, 13 RXER/PHYAD0, 14 CRS, 15 CRS_DV/MODE2, 16 MDIO, 17 MDC, 18 ~{INT}, 19 ~{RST}, 20 TXCLK, 21 TXEN, 22 TXD0, 23 TXD1, 24 TXD2, 25 TXD3, 26 RXDV, 27 VDD1A, 28 TXN, 29 TXP, 30 RXN, 31 RXP, 32 RBIAS, 33 PAD
text: PHY; 10/100BASE-T

## COM_ETH_LAN8742A-CZ
designator U?, comment LAN8742A-CZ
COM_ETH_ Ethernet PHY 1/1 Transceiver  Ethernet 24-SQFN (4x4) 10/100 BASE-T; Manufacturer #1: Microchip Technology; Voltage Rating: 1.6 ~ 3.6V; GRAMS Lib Spec: 2.7; Magnetic Material: Unknown; Polarized: Yes; Value: *; Tolerance: *; Current Rating: *; Power Max: *; HelpURL: https://ww1.microchip.com/downloads/en/DeviceDoc/DS_LAN8742_00001989A.pdf; VerifiedBy: Philippe Arsenault 2021-03-10; Temperature: 0°C ~ 70°C; Package: 24-SQFN (4x4); Manufacturer #2: *; Note: *; Assembly Type: SMD; Part Number #2: *; Part Number #1: LAN8742A-CZ; CreatedBy/Date: Hubert Dube -  28/01/2021; Supplier 1: Digi-Key; Supplier Part Number 1: LAN8742A-CZ-ND
footprint COM_ETH_LAN8742A-CZ-TR (24SQFN)
pins: 1 VDD2A, 2 LED2/REGOUT, 3 LED1, 4 XTAL2, 5 XTAL1/CLKIN, 6 VDDCR, 7 RXD1/MODE1, 8 RXD0/MODE0, 9 VDDIO, 10 RXER/PHYAD0, 11 CRS_DV/MODE2, 12 MDIO, 13 MDC, 14 nINT/REFCLKO, 15 ~{RST}, 16 TXEN, 17 TXD0, 18 TXD1, 19 VDD1A, 20 TXN, 21 TXP, 22 RXN, 23 RXP, 24 RBIAS, 25 PAD
text: PHY; 10/100BASE-T

## COM_ETH_LAN8742A-CZ-TR
designator U?, comment LAN8742A-CZ-TR
COM_ETH_ Ethernet PHY 1/1 Transceiver  Ethernet 24-SQFN (4x4) 10/100 BASE-T; Manufacturer #1: Microchip Technology; Voltage Rating: 1.6 ~ 3.6V; GRAMS Lib Spec: 2.7; Magnetic Material: Unknown; Polarized: Yes; Value: *; Tolerance: *; Current Rating: *; Power Max: *; HelpURL: https://ww1.microchip.com/downloads/en/DeviceDoc/DS_LAN8742_00001989A.pdf; VerifiedBy: Philippe Arsenault 2021-03-10; Temperature: 0°C ~ 70°C; Package: 24-SQFN (4x4); Manufacturer #2: *; Note: *; Assembly Type: SMD; Part Number #2: *; Part Number #1: LAN8742A-CZ-TR; CreatedBy/Date: Hubert Dube -  28/01/2021; Supplier 1: Digi-Key; Supplier Part Number 1: LAN8742A-CZ-CT-ND
footprint COM_ETH_LAN8742A-CZ-TR (24SQFN)
pins: 1 VDD2A, 2 LED2/REGOUT, 3 LED1, 4 XTAL2, 5 XTAL1/CLKIN, 6 VDDCR, 7 RXD1/MODE1, 8 RXD0/MODE0, 9 VDDIO, 10 RXER/PHYAD0, 11 CRS_DV/MODE2, 12 MDIO, 13 MDC, 14 nINT/REFCLKO, 15 ~{RST}, 16 TXEN, 17 TXD0, 18 TXD1, 19 VDD1A, 20 TXN, 21 TXP, 22 RXN, 23 RXP, 24 RBIAS, 25 PAD
text: PHY; 10/100BASE-T

## COM_USB_FT4232HL-REEL
designator U?, comment FT4232HL-REEL
COM_USB - Bridge, USB to UART,FIFO USB 2.0 FIFO, JTAG Quad channel Interface -  64-LQFP (10x10); Manufacturer #1: FTDI, Future Technology Devices International Ltd; Voltage Rating: 3V ~ 3.6V (VCCIO), 1.62V ~ 1.98V (core); Current Rating: 220mA; Power Max: 800mW; GRAMS Lib Spec: 2.8; Magnetic Material: Unknown; Polarized: Yes; Value: *; Tolerance: *; HelpURL: https://www.ftdichip.com/Support/Documents/DataSheets/ICs/DS_FT4232H.pdf; VerifiedBy: Louis-Daniel Gaulin / 08-04-2021; Temperature: -40°C ~ 85°C; Package: 64-LQFP; Manufacturer #2: *; Assembly Type: SMD; Part Number #2: *; Part Number #1: FT4232HL-REEL; CreatedBy/Date: Philippe Arsenault/2021-04-07; Supplier 1: Digi-Key; Supplier Part Number 1: 768-1026-1-ND
footprint COM_USB_FT4232HL-REEL (TSQFP, 64-Leads, Body 10,00x10,00mm)
pins: 1 GND, 2 OSCI, 3 OSCO, 4 VPHY, 5 GND, 6 REF, 7 DM, 8 DP, 9 VPLL, 10 AGND, 11 GND, 12 VCORE, 13 TEST, 14 RESET#, 15 GND, 16 TXD/TCK, 17 RXD/TDI, 18 RTS#/TDO, 19 CTS#/TMS, 20 VCCIO, 21 DTR#, 22 DSR#, 23 DCD#, 24 RI#/TXDEN*, 25 GND, 26 TXD/TCK, 27 RXD/TDI, 28 RTS#/TDO, 29 CTS#/TMS, 30 DTR#, 31 VCCIO, 32 DSR#, 33 DCD#, 34 RI#/TXDEN*, 35 GND, 36 ~{SUSPEND}, 37 VCORE, 38 TXD, 39 RXD, 40 RTS#, 41 CTS#, 42 VCCIO, 43 DTR#, 44 DSR#, 45 DCD#, 46 RI#/TXDEN*, 47 GND, 48 TXD, 49 VREGOUT, 50 VREGIN, 51 GND, 52 RXD, 53 RTS#, 54 CTS#, 55 DTR#, 56 VCCIO, 57 DSR#, 58 DCD#, 59 RI#/TXDEN*, 60 ~{PWREN}, 61 EEDATA, 62 EECLK, 63 EECS, 64 VCORE
text: / USB to Quad / FIFO Control

## COM_WIFI_ESP32-D0WD-V3
designator U?, comment ESP32-D0WD-V3
COM_WIFI - IC RF TxRx + MCU, WiFi 802.11b/g/n, Bluetooth 4.2 2.4GHz - 48-VFQFN Exposed Pad; Manufacturer #1: Espressif Systems; Voltage Rating: 2.3-3.63; Current Rating: Rx 100mA/Tx 240mA; Power Max: 900mW; GRAMS Lib Spec: 2.8; Magnetic Material: Unknown; Polarized: Yes; Cryo: No; Value: *; Tolerance: *; HelpURL: https://www.espressif.com/sites/default/files/documentation/esp32_datasheet_en.pdf; CreatedBy/Date: Hubert Dube/14-07-2020; Temperature: -40°C ~ 125°C; Package: VFQFN 48; Manufacturer #2: *; Note: *; Assembly Type: SMD; Part Number #2: *; Part Number #1: ESP32-D0WD-V3; Supplier 1: Digi-Key; Supplier Part Number 1: 1904-ESP32-D0WD-V3CT-ND
footprint COM_WIFI_ESP32-D0WD-V3
pins: 1 VDDA, 2 LNA_IN, 3 VDD3P3, 4 VDD3P3, 5 SENSOR_VP, 6 SENSOR_CAPP, 7 SENSOR_CAPN, 8 SENSOR_VN, 9 CHIP_PU, 10 VDET_1, 11 VDET_2, 12 32K_XP, 13 32K_XN, 14 GPIO25, 15 GPIO26, 16 GPIO27, 17 MTMS, 18 MTDI, 19 VDD3P3_RTC, 20 MTCK, 21 MTDO, 22 GPIO2, 23 GPIO0, 24 GPIO4, 25 GPIO16, 26 VDD_SDIO, 27 GPIO17, 28 SD_DATA_2, 29 SD_DATA_3, 30 SD_CMD, 31 SD_CLK, 32 SD_DATA_0, 33 SD_DATA_1, 34 GPIO5, 35 GPIO18, 36 GPIO23, 37 VDD3P3_CPU, 38 GPIO19, 39 GPIO22, 40 U0RXD, 41 U0TXD, 42 GPIO21, 43 VDDA, 44 XTAL_N, 45 XTAL_P, 46 VDDA, 47 CAP2, 48 CAP1, 49 GND
text: Analog; Wifi; And; Bluetooth; SOC

## COM_WIFI_ESP32-D0WDQ6-V3
designator U?, comment ESP32-D0WDQ6-V3
COM_WIFI - IC RF TxRx + MCU, WiFi 802.11b/g/n, Bluetooth 4.2 2.4GHz - 48-VFQFN Exposed Pad; Manufacturer #1: Espressif Systems; Voltage Rating: 2.3-3.63; Current Rating: Rx 100mA/Tx 240mA; Power Max: 900mW; GRAMS Lib Spec: 2.8; Magnetic Material: Unknown; Polarized: Yes; Cryo: No; Value: *; Tolerance: *; HelpURL: https://www.espressif.com/sites/default/files/documentation/esp32_datasheet_en.pdf; CreatedBy/Date: Louis-Daniel Gaulin / 10-12-2020; VerifiedBy: Hubert Dube - 14/12/2020; Temperature: -40°C ~ 125°C; Package: 48-VFQFN 6x6; Manufacturer #2: *; Note: *; Assembly Type: SMD; Part Number #2: *; Part Number #1: ESP32-D0WDQ6-V3; Supplier 1: Digi-Key; Supplier Part Number 1: 1904-ESP32-D0WDQ6-V3CT-ND
footprint COM_WIFI_ESP32-D0WDQ6-V3
pins: 1 VDDA, 2 LNA_IN, 3 VDD3P3, 4 VDD3P3, 5 SENSOR_VP, 6 SENSOR_CAPP, 7 SENSOR_CAPN, 8 SENSOR_VN, 9 CHIP_PU, 10 VDET_1, 11 VDET_2, 12 32K_XP, 13 32K_XN, 14 GPIO25, 15 GPIO26, 16 GPIO27, 17 MTMS, 18 MTDI, 19 VDD3P3_RTC, 20 MTCK, 21 MTDO, 22 GPIO2, 23 GPIO0, 24 GPIO4, 25 GPIO16, 26 VDD_SDIO, 27 GPIO17, 28 SD_DATA_2, 29 SD_DATA_3, 30 SD_CMD, 31 SD_CLK, 32 SD_DATA_0, 33 SD_DATA_1, 34 GPIO5, 35 GPIO18, 36 GPIO23, 37 VDD3P3_CPU, 38 GPIO19, 39 GPIO22, 40 U0RXD, 41 U0TXD, 42 GPIO21, 43 VDDA, 44 XTAL_N, 45 XTAL_P, 46 VDDA, 47 CAP2, 48 CAP1, 49 GND
text: Analog; Wifi; And; Bluetooth; SOC

## COM_XCV_CP2102N-A02-GQFN24R
designator U?, comment CP2102N-A02-GQFN24R
COM_XCV - IC USB TO UART BRIDGE - 24-QFN (4x4); Manufacturer #1: Silicon Labs; Voltage Rating: 3V ~ 3.6V; Current Rating: 9.5mA; Power Max: 35mW; GRAMS Lib Spec: 2.8c; Magnetic Material: Unknown; Polarized: YES; Value: -; Tolerance: -; HelpURL: https://www.silabs.com/documents/public/data-sheets/cp2102n-datasheet.pdf; CreatedBy/Date: Louis-Daniel Gaulin / 06-10-2020; VerifiedBy: Philippe Arsenault/2020-11-06; Temperature: -40°C ~ 85°C (TA); Package: 24-QFN (4x4); Manufacturer #2: -; Note: -; Assembly Type: SMD; Part Number #2: -; Part Number #1: CP2102N-A02-GQFN24R; Supplier 1: Digi-Key; Supplier Part Number 1: 336-5888-1-ND
footprint COM_XCV_CP2102N-A02-GQFN24R (QFN, 24-Leads, Body 4.00x4.00mm, Pitch 0.50mm, Thermal Pad 2.55x2.55mm, IPC Medium Density)
pins: 1 RI/CLK, 2 GND, 3 D+, 4 D-, 5 VIO, 6 VDD, 7 VREGIN, 8 VBUS, 9 RSTb, 10 NC, 11 GPIO3 / WAKEUP, 12 GPIO2 / RS485, 13 GPIO1 / RXT, 14 GPIO0 / TXT, 15 SUSPENDb, 16 NC, 17 SUSPEND, 18 CTS, 19 RTS, 20 RXD, 21 TXD, 22 DSR, 23 DTR, 24 DCD, 25 EP

## COM_XCV_DW1000-I-TR13
designator U?, comment DW1000-I-TR13
COM - IC RF TxRx 802.15.4 IR-UWB DECAWAVE - 48-VFQFN EP; Voltage Rating: 2.8 - 3.6 V; Current Rating: Rx 64mA/Tx 31mA; GRAMS Lib Spec: 2.8; Magnetic Material: Unknown; Polarized: Yes; Cryo: No; Value: *; Tolerance: *; Power Max: *; HelpURL: https://www.decawave.com/sites/default/files/resources/DW1000-Datasheet-V2.12.pdf; CreatedBy/Date: Philippe Arsenault/13-07-2020; Temperature: -40°C ~ 85°C; Package: QFN 48; Manufacturer #1: Decawave; Manufacturer #2: Qorvo; Note: *; Assembly Type: SMT; Part Number #2: *; Part Number #1: DW1000-I-TR13; Supplier 1: Digi-Key; Supplier Part Number 1: 1479-1001-1-ND
footprint COM_XCV_DW1000-I-TR13 (QFN 48 package, 0.5mm pitch)
pins: 1 NC, 2 NC, 3 XTAL1, 4 XTAL2, 5 VREF, 6 VDDMS, 7 VDDIF, 8 CLKTUNE, 9 VDDCLK, 10 VDDSYN, 11 VDDVCO, 12 VCOTUNE, 13 NC, 14 NC, 15 VDDLNA, 16 RF_P, 17 RF_N, 18 VDDPA1, 19 VDDPA2, 20 VDDREG, 21 EXTON, 22 FORCEON, 23 WAKEUP, 24 ~{SPICS}, 25 VDDAON, 26 VDDLDOD, 27 ~{RST}, 28 VDDIOA, 29 SYNC / GPIO7, 30 GPIO6 / EXTRXE / SPIPHA, 31 VDDIO, 32 VSSIO, 33 GPIO5 / EXTTXE / SPIPOL, 34 GPIO4 / EXTPA, 35 GPIO3 / TXLED, 36 GPIO2 / RXLED, 37 GPIO1 / SFDLED, 38 GPIO0 / RXOKLED, 39 SPIMOSI, 40 SPIMISO, 41 SPICLK, 42 VDDIO, 43 VSSIO, 44 VDDDIG, 45 IRQ / GPIO8, 46 TESTMODE, 47 VDDBATT, 48 VDDLDOA, 49 GND
text: Digital Power Supply/Decoupling; DO NOT; PULL HIGH; Analog Power Supply/Decoupling; Crystal; RF Interface

## COM_XCV_FIN1027AMX
designator U?, comment FIN1027AMX
COM_XCV - 3V3 LVCMOS to LVDS, 2 bits, High-SPEED, DIFF driver - SOIC-8; Manufacturer #1: ON Semiconductor; Value: 600Mbps; Voltage Rating: 3V ~ 3.6V; Current Rating: 17mA; Power Max: 56mW; GRAMS Lib Spec: 2.8; Magnetic Material: Unknown; Polarized: YES; HelpURL: https://www.onsemi.com/pdf/datasheet/fin1027a-d.pdf; CreatedBy/Date: Philippe Arsenault/2021-04-01; VerifiedBy: Louis-Daniel Gaulin - 05/04/2021; Temperature: -40°C ~ 85°C; Package: SOIC-8; Assembly Type: SMD; Part Number #1: FIN1027AMX; Supplier 1: Digi-Key; Supplier Part Number 1: FIN1027AMXCT-ND
footprint COM_XCV_FIN1027AMCOM (8-SOIC)
pins: 1 VCC, 2 Din_1, 3 Din_2, 4 GND, 5 Dout_2-, 6 Dout_2+, 7 Dout_1-, 8 Dout_1+

## COM_XCV_FIN1028MX
designator U?, comment FIN1028MX
COM_XCV - 3V3 LVDS to LVCMOS, 2 bits, High-SPEED, DIFF receiver - SOIC-8; Manufacturer #1: ON Semiconductor; Value: 400Mbps; Voltage Rating: 3V ~ 3.6V; Current Rating: 9mA; Power Max: 30mW; GRAMS Lib Spec: 2.8; Magnetic Material: Unknown; Polarized: YES; HelpURL: https://www.onsemi.com/pdf/datasheet/fin1028-d.pdf; CreatedBy/Date: Philippe Arsenault/2021-04-01; VerifiedBy: Louis-Daniel Gaulin - 05/04/2021; Temperature: -40°C ~ 85°C; Package: SOIC-8; Assembly Type: SMD; Part Number #1: FIN1028MX; Supplier 1: Digi-Key; Supplier Part Number 1: FIN1028MXCT-ND
footprint COM_XCV_FIN1028MX (8-SOIC)
pins: 1 Rin_1-, 2 Rin_1+, 3 Rin_2+, 4 Rin_2-, 5 GND, 6 Rout_2, 7 Rout_1, 8 VCC

## Component_1
designator U?, comment Comment
XXX - Description - Package; GRAMS Lib Spec: 2.7
text: PRELIMINARY

## CON_1217861-1
designator J?, comment 1217861-1
CON - Quick connect tab - TH; Manufacturer #1: TE Connectivity AMP Connectors; Value: 250 mills; GRAMS Lib Spec: 2.8; Magnetic Material: Unknown; Polarized: Yes; Tolerance: -; Voltage Rating: *; Current Rating: -; Power Max: -; HelpURL: https://www.te.com/commerce/DocumentDelivery/DDEController?Action=srchrtrv&DocNm=1217861&DocType=Customer+Drawing&DocLang=English; CreatedBy/Date: Louis-Daniel Gaulin / 24-02-2021; VerifiedBy: Hubert Dube - 26/02/2021; Temperature: -; Package: TH; Manufacturer #2: -; Assembly Type: TH; Part Number #2: -; Part Number #1: 1217861-1; Supplier 1: Digi-Key; Supplier Part Number 1: A100452CT-ND; Cryo: UNKNOWN
footprint CON_1217861-1
pins: 1

## CON_1935161
designator J?, comment 1935161
CON - TERM BLK 2POS SIDE ENTRY 5MM PCB - TH - 14-26 AWG; Manufacturer #1: Phoenix Contact; Current Rating: 17.5A; Magnetic Material: Unknown; Polarized: Yes; Voltage Rating: 400V; GRAMS Lib Spec: 2.8; Assembly Type: TH; Manufacturer #2: *; Note: *; Part Number #1: 1935161; Part Number #2: *; Package: TH; Power Max: *; Value: *; Temperature: -40 °C ~ 100 °C; HelpURL: https://media.digikey.com/pdf/Data%20Sheets/Phoenix%20Contact%20PDFs/1935161.pdf; CreatedBy/Date: Louis-Daniel Gaulin / 02-11-2020; Supplier 1: Digi-Key; Supplier Part Number 1: 277-1667-ND; Tolerance: *; VerifiedBy: Philippe Arsenault/2020-11-06; Cryo: UNKNOWN
footprint CON_ 1935161
pins: 1, 2

## CON_0878321014
designator J?, comment 0878321014
CON - HEADER SMD 10POS 2mm - SMD; Manufacturer #1: Molex; GRAMS Lib Spec: 2.8; Magnetic Material: Unknown; Polarized: YES; Value: *; Tolerance: *; Voltage Rating: *; Current Rating: *; Power Max: *; HelpURL: https://www.molex.com/webdocs/datasheets/pdf/en-us/0878321014_PCB_HEADERS.pdf; CreatedBy/Date: Hubert Dube - 8/10/2020; VerifiedBy: Louis-Daniel Gaulin / 12-11-2020; Temperature: -55°C ~ 105 °C; Package: SMD; Manufacturer #2: *; Assembly Type: SMD; Part Number #2: *; Part Number #1: 0878321014; Cryo: UNKNOWN; Supplier 1: Digi-Key; Supplier Part Number 1: WM14376CT-ND
footprint CON_0878321014
pins: 1, 2, 3, 4, 5, 6, 7, 8, 9, 10

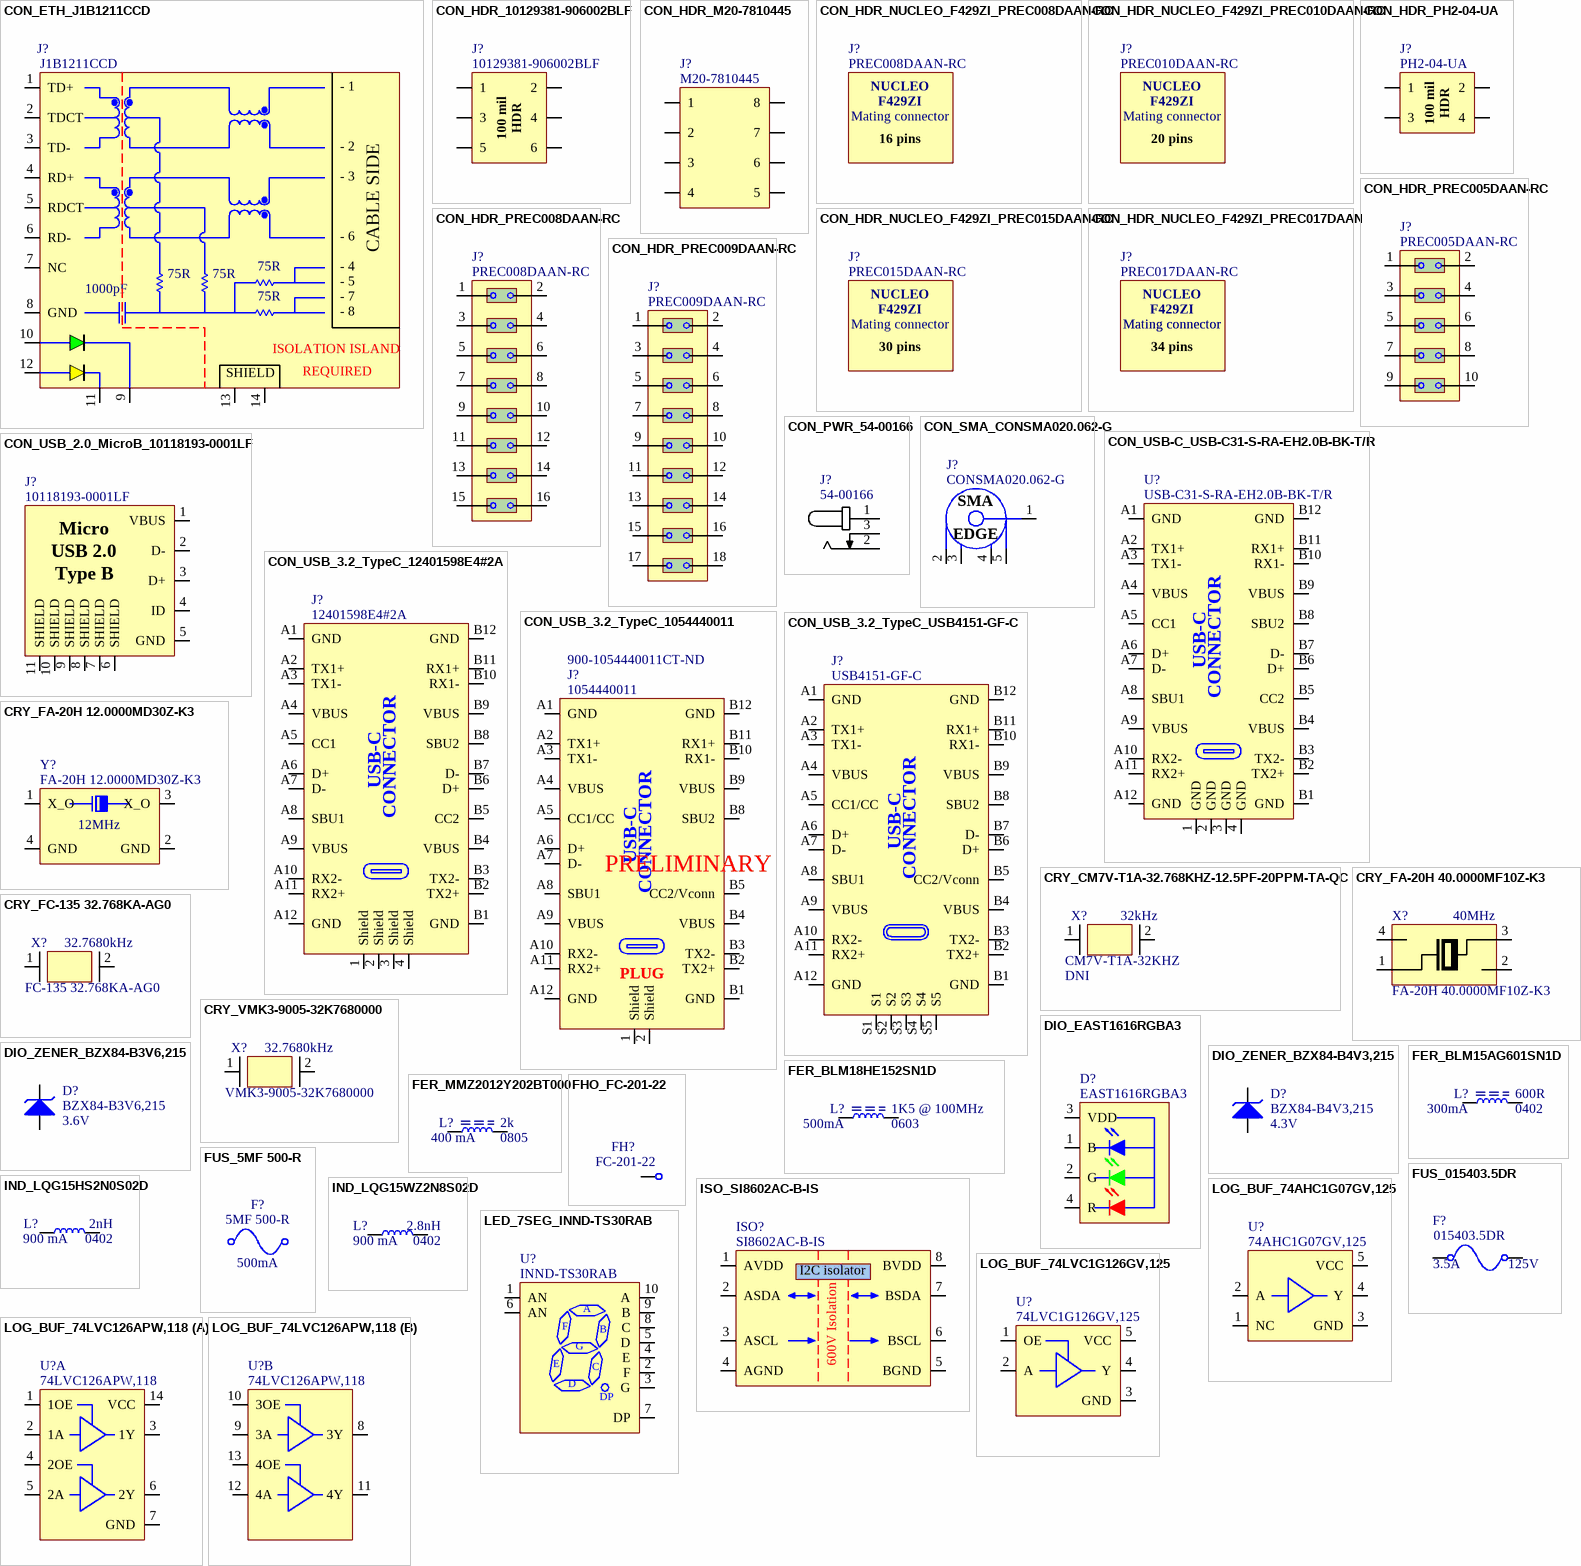
[diagram p2: symbols CON_ETH_J1B1211CCD to LOG_BUF_74LVC126APW,118]

## CON_ETH_J1B1211CCD
designator J?, comment J1B1211CCD
CON_ETH - 1 Port RJ45 Magjack Connector Through Hole 10/100 Base-T, AutoMDIX / 350 µH minimum OCL with 8 mA bias current.; Manufacturer #1: WIZnet; Part Number #1: 1278-1052-ND; GRAMS Lib Spec: 2.8; Magnetic Material: Unknown; Polarized: Yes; Tolerance: *; Voltage Rating: *; Power Max: *; HelpURL: http://wizwiki.net/wiki/lib/exe/fetch.php?media=products:wiz550web:wiz550webds_kr:j1b1211ccd.pdf; CreatedBy/Date: Hubert Dube - 12/02/2021; VerifiedBy: Philippe Arsenault - 2021-03-10; Temperature: -40°C ~ 85°C; Assembly Type: SMD; Part Number #2: *; Cryo: UNKNOWN; Supplier 1: Digi-Key; Supplier Part Number 1: 1278-1052-ND
footprint CON_ETH_J1B1211CCD_WIZ (ETH with mags)
pins: 1 TD+, 2 TDCT, 3 TD-, 4 RD+, 5 RDCT, 6 RD-, 7 NC, 8 GND, 9 LED1_K, 10 LED1_A, 11, 12, 13 SHIELD, 14
text: - 1; - 2; - 3; - 6; CABLE SIDE; 75R; - 4; - 5; 1000pF; - 7; - 8; ISOLATION ISLAND; REQUIRED

## CON_HDR_10129381-906002BLF
designator J?, comment 10129381-906002BLF
CON - Header 6 positions 3x2  0.100" - 6-TH; Manufacturer #1: Amphenol ICC (FCI); Current Rating: 3A; GRAMS Lib Spec: 2.8c; Magnetic Material: Unknown; Polarized: Yes; Value: 6 Pos.; Assembly Type: TH; CreatedBy/Date: Philippe Arsenault/2021-04-14; HelpURL: https://cdn.amphenol-icc.com/media/wysiwyg/files/drawing/10129381.pdf; Manufacturer #2: *; Package: 6- TH; Part Number #2: *; Power Max: *; Temperature: -55°C ~ 105°C; Tolerance: *; Part Number #1: 10129381-906002BLF; Cryo: UNKNOWN; Supplier 1: Digi-Key; Supplier Part Number 1: 10129381-906002BLF-ND
footprint CON_HDR_10129381-906002BLF (2x3 100mils header)
pins: 1, 2, 3, 4, 5, 6
text: 100 mil; HDR

## CON_HDR_M20-7810445
designator J?, comment M20-7810445
CONN RCPT 8POS 0.1 GOLD SMD; Manufacturer #1: Harwin Inc.; GRAMS Lib Spec: 2.8; Magnetic Material: Unknown; Polarized: NO; Value: *; Tolerance: *; Voltage Rating: *; Current Rating: *; Power Max: *; HelpURL: https://cdn.harwin.com/pdfs/M20-781.pdf; CreatedBy/Date: Hubert Dube - 31/10/2020; VerifiedBy: Louis-Daniel Gaulin - 09/11/2020; Temperature: -40°C ~ 105°C; Package: SMD; Manufacturer #2: *; Assembly Type: SMD; Part Number #2: *; Part Number #1: M20-7810445; Cryo: UNKNOWN; Supplier 1: Digi-Key; Supplier Part Number 1: 952-3209-ND
footprint CON_HDR_M20-7810445R
pins: 1, 2, 3, 4, 5, 6, 7, 8

## CON_HDR_NUCLEO_F429ZI_PREC008DAAN-RC
designator J?, comment PREC008DAAN-RC
CON - Header 16 positions 2x8  0.100" - TH; Manufacturer #1: Sullins Connector Solutions; Current Rating: 3A; GRAMS Lib Spec: 2.8; Magnetic Material: Unknown; Polarized: No; Voltage Rating: 1000VAC; Assembly Type: TH; CreatedBy/Date: Louis-Daniel Gaulin / 21-10-2020; HelpURL: https://drawings-pdf.s3.amazonaws.com/11636.pdf; Manufacturer #2: *; Package: TH; Part Number #2: *; Power Max: *; Supplier 1: Digi-Key; Supplier Part Number 1: S2012EC-08-ND; Temperature: -55°C ~ 105°C; Tolerance: *; Value: *; Part Number #1: PREC008DAAN-RC; Cryo: UNKNOWN
footprint CON_HDR_NUCLEO_F429ZI_C008DAAN-RC
text: NUCLEO; F429ZI; Mating connector; 16 pins